# EAGLE library part 24C* (library microchip-6)
Serial EEPROM 1 K/2 K/4 K
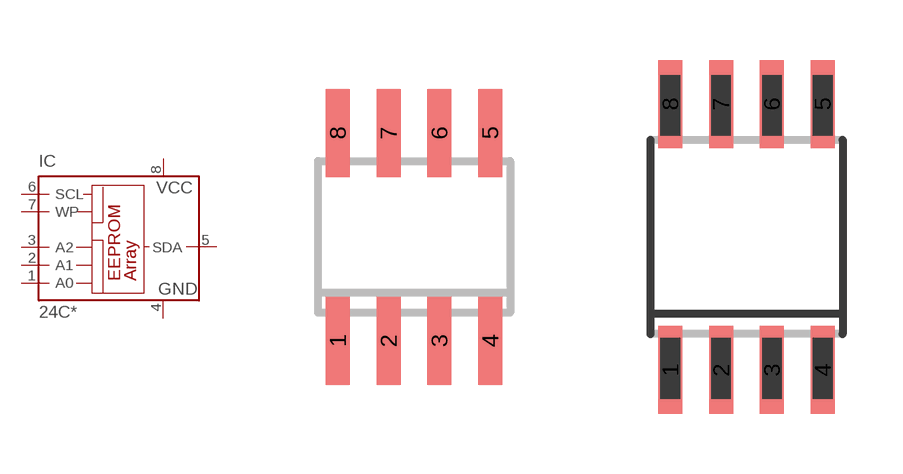
[diagram p27: symbol with the pads of SO-08; footprints SO-08, SO-08M]

Designator prefix IC

## 24C01SN, 24C01ASN, 24C01CSN, 24C02SN, 24C02ASN, 24C02CSN, 24C04SN, 24C04ASN, 24C04CSN  [SO-08]
1  A0  in
2  A1  in
3  A2  in
4  GND  pwr
5  SDA
6  SCL  in
7  WP  in
8  VCC  pwr

## 24C01SM, 24C01ASM, 24C01CSM, 24C02SM, 24C02ASM, 24C02CSM, 24C04SM, 24C04ASM  [SO-08M]
Pads as for SO-08

## 24C01P, 24C01AP, 24C01CP, 24C02P, 24C02AP, 24C02CP, 24C04P, 24C04AP, 24C04CP  [DIL8]
Pads as for SO-08

## 24C01SL, 24C02SL, 24C04SL  [SO-14]
2  A0  in
3  A1  in
5  A2  in
6  GND  pwr
9  SDA
10  SCL  in
12  WP  in
13  VCC  pwr

## Footprint SO-08 (pad centres in mm)
Small Outline Narrow Plastic Gull Wing 150-mil body, package type SN
smd 0.6 x 2.2: 1 -1.905,-2.6; 2 -0.635,-2.6; 3 0.635,-2.6; 4 1.905,-2.6; 5 1.905,2.6; 6 0.635,2.6; 7 -0.635,2.6; 8 -1.905,2.6

## Footprint SO-08M (pad centres in mm)
Small Outline Medium Plastic Gull Wing 207-mil body, package type SM
smd 0.6 x 2.2: 1 -1.905,-3.33; 2 -0.635,-3.33; 3 0.635,-3.33; 4 1.905,-3.33; 5 1.905,3.33; 6 0.635,3.33; 7 -0.635,3.33; 8 -1.905,3.33

## Footprint DIL8 (pad centres in mm)
Dual In Line package type P
drill 0.813 long: 1 -3.81,-3.81; 2 -1.27,-3.81; 3 1.27,-3.81; 4 3.81,-3.81; 5 3.81,3.81; 6 1.27,3.81; 7 -1.27,3.81; 8 -3.81,3.81

## Footprint SO-14 (pad centres in mm)
Small Outline Narrow Plastic Gull Wing 150-mil body, package type SL
smd 0.6 x 2.2: 1 -3.81,-2.6; 2 -2.54,-2.6; 3 -1.27,-2.6; 4 0,-2.6; 5 1.27,-2.6; 6 2.54,-2.6; 7 3.81,-2.6; 8 3.81,2.6; 9 2.54,2.6; 10 1.27,2.6; 11 0,2.6; 12 -1.27,2.6; 13 -2.54,2.6; 14 -3.81,2.6